# Altium schematic symbol library Display Modules.SchLib: 1 symbol
Pins are listed as number, name and electrical type; pins without a type are passive.

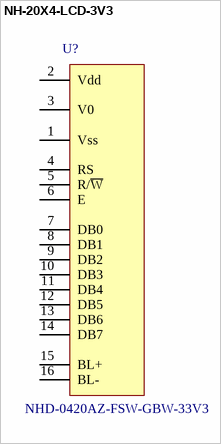
[diagram p0: symbol NH-20X4-LCD-3V3]

## NH-20X4-LCD-3V3
designator U?, comment NHD-0420AZ-FSW-GBW-33V3
NewHaven 20x4 Character LCD, 3.3V; Value: NHD-0420AZ-FSW-GBW-33V3
footprint NH-20X4-3V3
pins: 1 Vss (power), 2 Vdd (power), 3 V0 (power), 4 RS, 5 R/~{W}, 6 E, 7 DB0, 8 DB1, 9 DB2, 10 DB3, 11 DB4, 12 DB5, 13 DB6, 14 DB7, 15 BL+, 16 BL-